# Altium footprint library TRANS_RF.PcbLib: 17 footprints (part 1 of 2)
Each footprint in its own frame and in the unit in brackets; x right, y up, seen from the top. Pads: shape width x height; smd on the part's side, far side on the other; paste and mask are expansions set on the pad; w line width, h text height; cw(c..) or ccw(c..) is an arc to the next point about the centre after c.
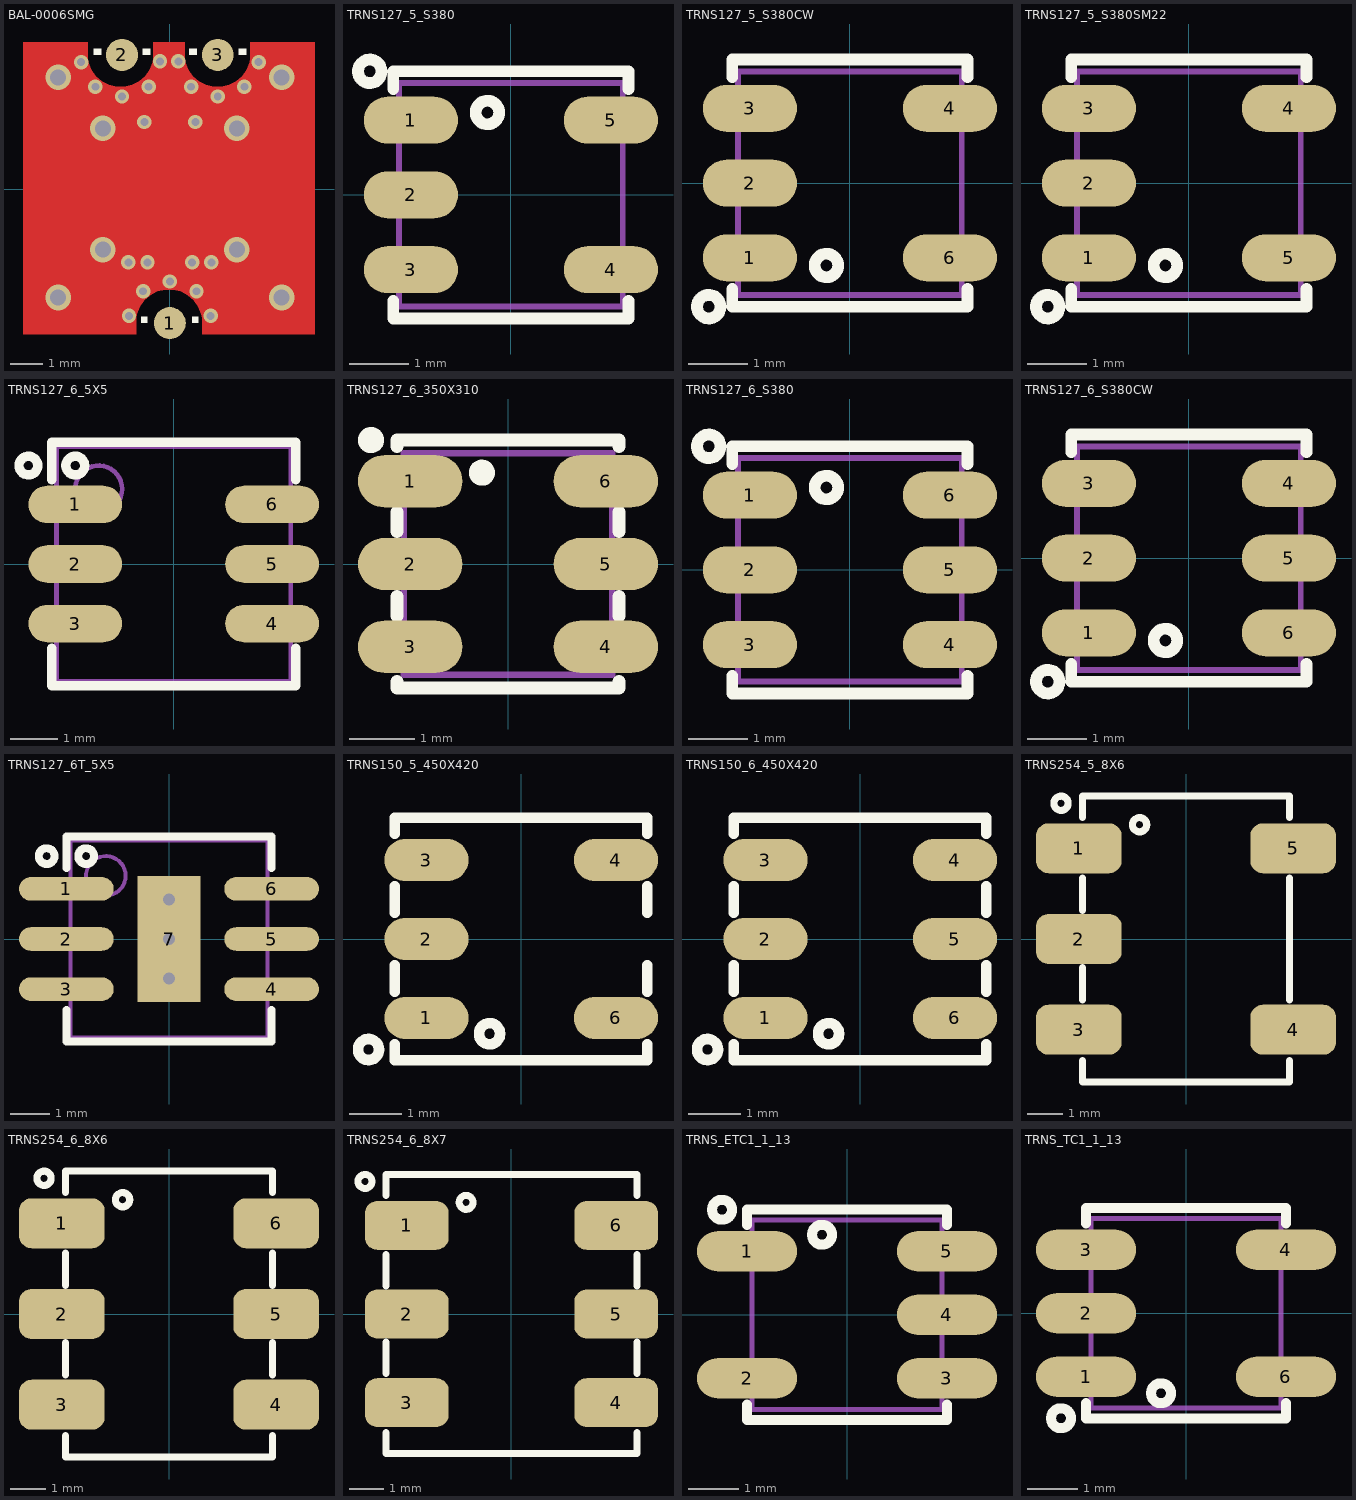
[diagram p0: the footprints below, top view; thin cyan lines are the x and y axes]

## BAL-0006SMG [mm] "Balun, 3pin 0.5KHz ~ 6GHz"
height 4
pads (3):
  round 1 smd: 1(0,-4.2) 2(-1.5,4.2) 3(1.5,4.2)
via -0.31,4 diameter 0.45 hole 0.25
via 0.265,4 diameter 0.45 hole 0.25
via 0,-2.9 diameter 0.45 hole 0.25
via -0.836,-3.204 diameter 0.45 hole 0.25
via -1.28,-3.974 diameter 0.45 hole 0.25
via 1.28,-3.974 diameter 0.45 hole 0.25
via 0.836,-3.204 diameter 0.45 hole 0.25
via -1.3,-2.3 diameter 0.45 hole 0.25
via -0.7,-2.3 diameter 0.45 hole 0.25
via 0.7,-2.3 diameter 0.45 hole 0.25
via 1.3,-2.3 diameter 0.45 hole 0.25
via -2.1,-1.9 diameter 0.8 hole 0.5
via -3.5,-3.4 diameter 0.8 hole 0.5
via 3.5,-3.4 diameter 0.8 hole 0.5
via 2.1,-1.9 diameter 0.8 hole 0.5
via -0.664,3.204 diameter 0.45 hole 0.25
via -2.78,3.974 diameter 0.45 hole 0.25
via -2.336,3.204 diameter 0.45 hole 0.25
via -1.5,2.9 diameter 0.45 hole 0.25
via 2.336,3.204 diameter 0.45 hole 0.25
via 2.78,3.974 diameter 0.45 hole 0.25
via 0.664,3.204 diameter 0.45 hole 0.25
via 1.5,2.9 diameter 0.45 hole 0.25
via -0.8,2.1 diameter 0.45 hole 0.25
via 0.8,2.1 diameter 0.45 hole 0.25
via -3.5,3.5 diameter 0.8 hole 0.5
via -2.1,1.9 diameter 0.8 hole 0.5
via 2.1,1.9 diameter 0.8 hole 0.5
via 3.5,3.5 diameter 0.8 hole 0.5
Top Layer:
  region: -1.055,-4.548 -1.055,-4.04 -1.03,-3.918 -0.939,-3.689 -0.795,-3.487 -0.608,-3.325 -0.388,-3.211 -0.148,-3.153 0.1,-3.153 0.34,-3.211 0.56,-3.325 0.747,-3.487 0.89,-3.689 0.982,-3.918 1.007,-4.04 1.007,-4.548 4.545,-4.548 4.545,4.596 2.523,4.596 2.523,4.088 2.499,3.967 2.407,3.737 2.263,3.535 2.077,3.373 1.857,3.26 1.616,3.201 1.369,3.201 1.128,3.26 0.908,3.373 0.721,3.535 0.578,3.737 0.486,3.967 0.461,4.088 0.461,4.596 -0.516,4.596 -0.516,4.088 -0.541,3.967 -0.633,3.737 -0.776,3.535 -0.963,3.373 -1.183,3.26 -1.423,3.201 -1.671,3.201 -1.911,3.26 -2.131,3.373 -2.318,3.535 -2.461,3.737 -2.553,3.967 -2.578,4.088 -2.578,4.596 -4.599,4.596 -4.599,-4.548
Top Overlay:
  rectangle: -0.9,-4.2 -0.7,-4
  region: 0.9,-4 0.7,-4 0.7,-4.2 0.9,-4.2
  region: -0.6,4.4 -0.85,4.4 -0.85,4.2 -0.6,4.2
  rectangle: -2.4,4.2 -2.15,4.4
  region: 2.4,4.4 2.15,4.4 2.15,4.2 2.4,4.2
  rectangle: 0.6,4.2 0.85,4.4
3D body "BAL-0006SMG.step": height 4, standoff 0, extent -4.05,-4.05 4.05,4.05

## TRNS127_5_S380 [mm] "Transformer, pitch:1.27 3.8X3.8mm, RFXF6553"
height 1.4
pads (5):
  oval 1.6x0.8 smd: 1(-1.7,1.27) 2(-1.7,0) 3(-1.7,-1.27) 4(1.7,-1.27) 5(1.7,1.27)
Top Overlay:
  circle w0.2: c-2.4,2.1 r0.2
  circle w0.2: c-0.4,1.4 r0.2
  lines w0.2: -2,-1.8 -2,-2.1 2,-2.1 2,-1.8 ; -2,1.8 -2,2.1 2,2.1 2,1.8
Mechanical 13:
  lines w0.1: -1.9,-1.9 -1.9,1.9 1.9,1.9 1.9,-1.9 -1.9,-1.9
3D body "User Library-etc1-1-13.step": height 2.6, standoff 0, extent -2.413,-1.9 2.413,1.91

## TRNS127_5_S380CW [mm] "Transformer, 4X3.8mm, 1.27mm pitch, Clockwise numbering"
height 2.7
pads (5):
  oval 1.6x0.8 smd: 1(-1.7,-1.27) 2(-1.7,0) 3(-1.7,1.27) 4(1.7,1.27) 6(1.7,-1.27)
Top Overlay:
  circle w0.2: c-0.4,-1.4 r0.2
  circle w0.2: c-2.4,-2.1 r0.2
  lines w0.2: -2,-1.8 -2,-2.1 2,-2.1 2,-1.8 ; -2,1.8 -2,2.1 2,2.1 2,1.8
Mechanical 13:
  lines w0.1: -1.9,-1.9 1.9,-1.9 1.9,1.9 -1.9,1.9 -1.9,-1.9
3D body "User Library-etc1-1-13.step": height 2.6, standoff 0, extent -2.413,-1.9 2.413,1.91

## TRNS127_5_S380SM22 [mm] "Transformer, sm-22, AT224"
height 2.7
pads (5):
  oval 1.6x0.8 smd: 1(-1.7,-1.27) 2(-1.7,0) 3(-1.7,1.27) 4(1.7,1.27) 5(1.7,-1.27)
Top Overlay:
  circle w0.2: c-2.4,-2.1 r0.2
  circle w0.2: c-0.4,-1.4 r0.2
  lines w0.2: -2,-1.8 -2,-2.1 2,-2.1 2,-1.8 ; -2,1.8 -2,2.1 2,2.1 2,1.8
Mechanical 13:
  lines w0.1: -1.9,-1.9 -1.9,1.9 1.9,1.9 1.9,-1.9 -1.9,-1.9
3D body "User Library-etc1-1-13.step": height 2.6, standoff 0, extent -2.413,-1.9 2.413,1.91

## TRNS127_6_5X5 [mm] "Transformer, AT577, 6-Leads, Body 5x5mm, Pitch 1.27mm"
height 1.8
pads (6):
  oval 2x0.8 smd mask+0.1: 1(-2.1,1.27) 2(-2.1,0) 3(-2.1,-1.27) 4(2.1,-1.27) 5(2.1,0) 6(2.1,1.27)
Top Overlay:
  circle w0.2: c-3.1,2.1 r0.2
  circle w0.2: c-2.1,2.1 r0.2
  lines w0.2: -2.6,-1.8 -2.6,-2.6 2.6,-2.6 2.6,-1.8 ; -2.6,1.8 -2.6,2.6 2.6,2.6 2.6,1.8
Mechanical 13:
  circle w0.1: c-1.6,1.6 r0.5
  lines w0.1: -2.5,-2.5 2.5,-2.5 2.5,2.5 -2.5,2.5 -2.5,-2.5
3D body: height 1.8, standoff 0.5, extent -2.5,-2.5 2.5,2.5

## TRNS127_6_350X310 [mm] "Transformer, SFECF MURATA CERAFIL pitch: 1.28mm 3.5x3.1mm 6Lead"
height 1.4
pads (6):
  oval 1.6x0.8 smd: 1(-1.5,1.27) 2(-1.5,0) 3(-1.5,-1.27) 4(1.5,-1.27) 5(1.5,0) 6(1.5,1.27)
Top Overlay:
  circle w0.2: c-2.1,1.9 r0.1
  circle w0.2: c-0.4,1.4 r0.1
  lines w0.2: -1.7,-1.8 -1.7,-1.9 1.7,-1.9 1.7,-1.8 ; -1.7,-0.8 -1.7,-0.5 ; -1.7,0.5 -1.7,0.8 ; -1.7,1.8 -1.7,1.9 1.7,1.9 1.7,1.8 ; 1.7,-0.8 1.7,-0.5 ; 1.7,0.5 1.7,0.8
Mechanical 13:
  lines w0.1: -1.6,-1.7 -1.6,1.7 1.6,1.7 1.6,-1.7 -1.6,-1.7
3D body "User Library-SFECF10M7EA00S0-R0.step": height 1.32, standoff 0, extent -1.57,-1.725 1.57,1.725

## TRNS127_6_S380 [mm] "Transformer, SAW Bandpass Filter F8973, pitch:1.27 3.8X3.8mm"
height 1.4
pads (6):
  oval 1.6x0.8 smd: 1(-1.7,1.27) 2(-1.7,0) 3(-1.7,-1.27) 4(1.7,-1.27) 5(1.7,0) 6(1.7,1.27)
Top Overlay:
  circle w0.2: c-0.4,1.4 r0.2
  circle w0.2: c-2.4,2.1 r0.2
  lines w0.2: -2,-1.8 -2,-2.1 2,-2.1 2,-1.8 ; -2,1.8 -2,2.1 2,2.1 2,1.8
Mechanical 13:
  lines w0.1: -1.9,-1.9 1.9,-1.9 1.9,1.9 -1.9,1.9 -1.9,-1.9
3D body "User Library-etc1-1-13.step": height 2.6, standoff 0, extent -2.413,-1.9 2.413,1.91

## TRNS127_6_S380CW [mm] "Transformer, 4X3.8mm, 1.27mm pitch, Clockwise numbering"
height 2.7
pads (6):
  oval 1.6x0.8 smd: 1(-1.7,-1.27) 2(-1.7,0) 3(-1.7,1.27) 4(1.7,1.27) 5(1.7,0) 6(1.7,-1.27)
Top Overlay:
  circle w0.2: c-2.4,-2.1 r0.2
  circle w0.2: c-0.4,-1.4 r0.2
  lines w0.2: -2,-1.8 -2,-2.1 2,-2.1 2,-1.8 ; -2,1.8 -2,2.1 2,2.1 2,1.8
Mechanical 13:
  lines w0.1: -1.9,-1.9 -1.9,1.9 1.9,1.9 1.9,-1.9 -1.9,-1.9
3D body "User Library-etc1-1-13.step": height 2.6, standoff 0, extent -2.413,-1.9 2.413,1.91

## TRNS127_6T_5X5 [mm] "Transformer, SM31, 6-Leads, Body 5x5mm, Pitch 1.27mm"
height 1.8
pads (7):
  oval 2.4x0.6 smd: 1(-2.6,1.27) 2(-2.6,0) 3(-2.6,-1.27) 4(2.6,-1.27) 5(2.6,0) 6(2.6,1.27)
  rect 1.6x3.2 smd: 7(0,0)
via 0,0 diameter 0.5 hole 0.3
via 0,1 diameter 0.5 hole 0.3
via 0,-1 diameter 0.5 hole 0.3
Top Overlay:
  circle w0.2: c-2.1,2.1 r0.2
  circle w0.2: c-3.1,2.1 r0.2
  lines w0.2: -2.6,-1.8 -2.6,-2.6 2.6,-2.6 2.6,-1.8 ; -2.6,1.8 -2.6,2.6 2.6,2.6 2.6,1.8
Mechanical 13:
  circle w0.1: c-1.6,1.6 r0.5
  lines w0.1: -2.5,-2.5 -2.5,2.5 2.5,2.5 2.5,-2.5 -2.5,-2.5
3D body: height 1.8, standoff 0.5, extent -2.5,-2.5 2.5,2.5

## TRNS150_5_450X420 [mm] "Transformer, WBC, pitch:1.5mm, 4.5X4.2mm"
height 3
pads (5):
  oval 1.6x0.8 smd: 1(-1.8,-1.5) 2(-1.8,0) 3(-1.8,1.5) 4(1.8,1.5) 6(1.8,-1.5)
Top Overlay:
  circle w0.2: c-2.9,-2.1 r0.2
  circle w0.2: c-0.6,-1.8 r0.2
  lines w0.2: -2.4,-2 -2.4,-2.3 2.4,-2.3 2.4,-2 ; -2.4,-1 -2.4,-0.5 ; -2.4,0.5 -2.4,1 ; -2.4,2 -2.4,2.3 2.4,2.3 2.4,2 ; 2.4,-1 2.4,-0.5 ; 2.4,0.5 2.4,1
3D body "User Library-WBC_Trans.STEP": height 3.01, standoff 0, extent -2.225,-2.1 2.225,2.1

## TRNS150_6_450X420 [mm] "Transformer, WBC, pitch:1.5mm, 4.5X4.2mm"
height 3
pads (6):
  oval 1.6x0.8 smd: 1(-1.8,-1.5) 2(-1.8,0) 3(-1.8,1.5) 4(1.8,1.5) 5(1.8,0) 6(1.8,-1.5)
Top Overlay:
  circle w0.2: c-0.6,-1.8 r0.2
  circle w0.2: c-2.9,-2.1 r0.2
  lines w0.2: -2.4,-2 -2.4,-2.3 2.4,-2.3 2.4,-2 ; -2.4,-1 -2.4,-0.5 ; -2.4,0.5 -2.4,1 ; -2.4,2 -2.4,2.3 2.4,2.3 2.4,2 ; 2.4,-1 2.4,-0.5 ; 2.4,0.5 2.4,1
3D body "User Library-WBC_Trans.STEP": height 3.01, standoff 0, extent -2.225,-2.1 2.225,2.1

## TRNS254_5_8X6 [mm] "Transformer, ADT1-1WT, 7.1X6.35X3mm"
pads (5):
  rrect50% 2.4x1.4 smd: 1(-3,2.54) 2(-3,0) 3(-3,-2.54) 4(3,-2.54) 5(3,2.54)
Top Overlay:
  circle w0.2: c-3.5,3.8 r0.2
  circle w0.2: c-1.3,3.2 r0.2
  lines w0.2: -2.9,-3.4 -2.9,-4 2.9,-4 2.9,-3.4 ; -2.9,-1.7 -2.9,-0.8 ; -2.9,0.8 -2.9,1.7 ; -2.9,3.4 -2.9,4 2.9,4 2.9,3.4 ; 2.9,-1.7 2.9,1.7
3D body "User Library-CD542.step": height 2.85, standoff 0, extent -3.455,-3.935 3.455,3.935

## TRNS254_6_8X6 [mm] "Transformer, CD541, CD542,  CD636, CD637, 7.9X5.6X2.8mm"
height 2.8
pads (6):
  rrect50% 2.4x1.4 smd: 1(-3,2.54) 2(-3,0) 3(-3,-2.54) 4(3,-2.54) 5(3,0) 6(3,2.54)
Top Overlay:
  circle w0.2: c-3.5,3.8 r0.2
  circle w0.2: c-1.3,3.2 r0.2
  lines w0.2: -2.9,-3.4 -2.9,-4 2.9,-4 2.9,-3.4 ; -2.9,-1.7 -2.9,-0.8 ; -2.9,0.8 -2.9,1.7 ; -2.9,3.4 -2.9,4 2.9,4 2.9,3.4 ; 2.9,-1.7 2.9,-0.8 ; 2.9,0.8 2.9,1.7
3D body "User Library-CD542.step": height 2.85, standoff 0, extent -3.455,-3.935 3.455,3.935

## TRNS254_6_8X7 [mm] "Transformer, CD541, CD542,  CD636, CD637, 7.9X5.6X2.8mm"
height 5.7
pads (6):
  rrect50% 2.4x1.4 smd: 1(-3,2.54) 2(-3,0) 3(-3,-2.54) 4(3,-2.54) 5(3,0) 6(3,2.54)
Top Overlay:
  circle w0.2: c-1.3,3.2 r0.2
  circle w0.2: c-4.2,3.8 r0.2
  lines w0.2: -3.6,-3.4 -3.6,-4 3.6,-4 3.6,-3.4 ; -3.6,-1.7 -3.6,-0.8 ; -3.6,0.8 -3.6,1.7 ; -3.6,3.4 -3.6,4 3.6,4 3.6,3.4 ; 3.6,-1.7 3.6,-0.8 ; 3.6,0.8 3.6,1.7
3D body "User Library-JPS-2-900+.step": height 5.72, standoff 0, extent -3.805,-3.935 3.805,3.935

## TRNS_ETC1_1_13 [mm] "Transformer, 5pin ETC1-1-13 3.8x3.8mm pitch: 1.27mm"
height 3
pads (5):
  oval 2x0.8 smd: 1(-2,1.27) 2(-2,-1.27) 3(2,-1.27) 4(2,0) 5(2,1.27)
Top Overlay:
  circle w0.2: c-0.5,1.6 r0.2
  circle w0.2: c-2.5,2.1 r0.2
  lines w0.2: -2,-1.8 -2,-2.1 2,-2.1 2,-1.8 ; -2,1.8 -2,2.1 2,2.1 2,1.8
Mechanical 13:
  lines w0.1: -1.9,-1.9 1.9,-1.9 1.9,1.9 -1.9,1.9 -1.9,-1.9
3D body "User Library-etc1-1-13.step": height 2.6, standoff 0, extent -2.413,-1.9 2.413,1.91

## TRNS_TC1_1_13 [mm] "Transformer, 5pin TC1-1-13M+ 3.8x3.8mm pitch: 1.27mm"
height 3
pads (5):
  oval 2x0.8 smd: 1(-2,-1.27) 2(-2,0) 3(-2,1.27) 4(2,1.27) 6(2,-1.27)
Top Overlay:
  circle w0.2: c-2.5,-2.1 r0.2
  circle w0.2: c-0.5,-1.6 r0.2
  lines w0.2: -2,-1.8 -2,-2.1 2,-2.1 2,-1.8 ; -2,1.8 -2,2.1 2,2.1 2,1.8
Mechanical 13:
  lines w0.1: -1.9,-1.9 -1.9,1.9 1.9,1.9 1.9,-1.9 -1.9,-1.9
3D body "User Library-etc1-1-13.step": height 2.6, standoff 0, extent -2.413,-1.9 2.413,1.91